# Altium footprint library LORA.PcbLib: 21 footprints (part 1 of 2)
Each footprint in its own frame and in the unit in brackets; x right, y up, seen from the top. Pads: shape width x height; smd on the part's side, far side on the other; paste and mask are expansions set on the pad; w line width, h text height; cw(c..) or ccw(c..) is an arc to the next point about the centre after c.
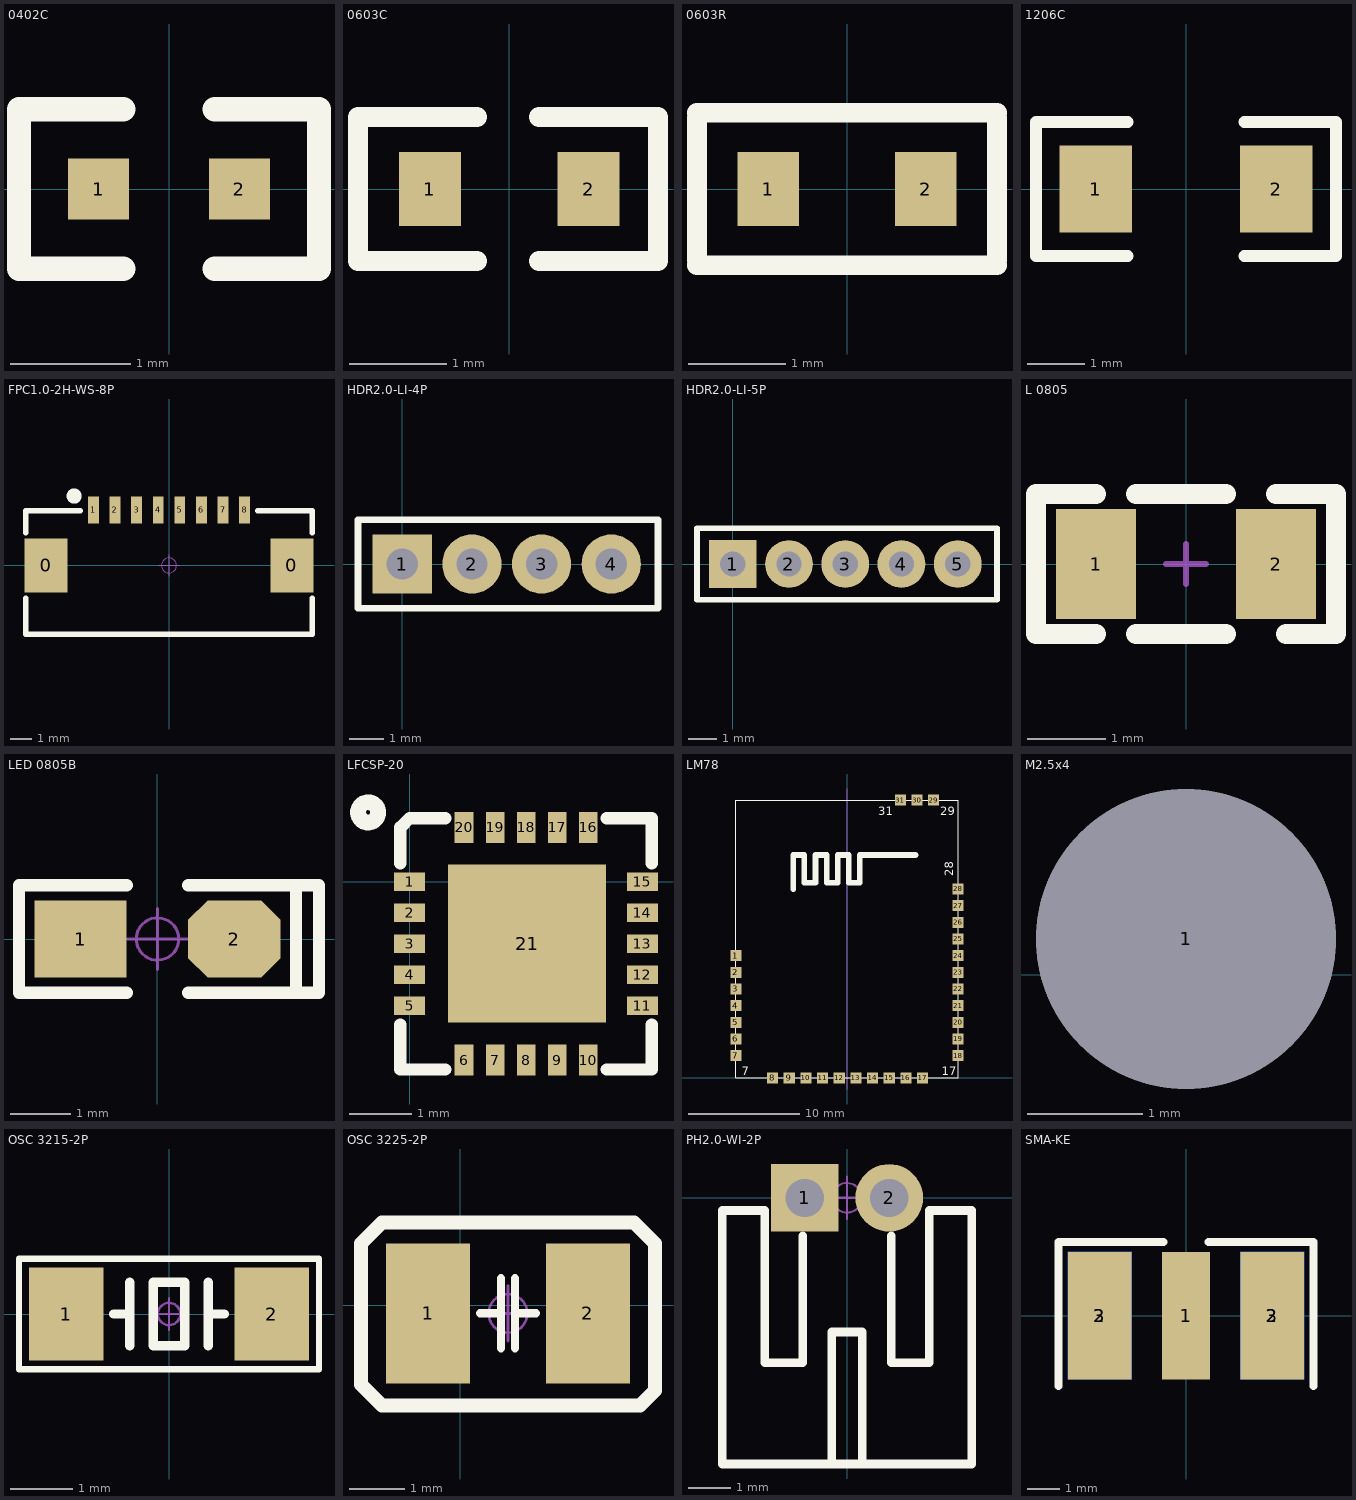
[diagram p0: the footprints below, top view; thin cyan lines are the x and y axes]

## 0402C [mil] "1mmx0.5mm （蒜米工坊）"
height 9.84
pads (2):
  rect 20x20 smd: 1(-23,0) 2(23,0)
Top Overlay:
  lines w8: -15,-26 -49,-26 -49,26 -15,26 ; 15,-26 49,-26 49,26 15,26
3D body: height 13.78, standoff 0, extent -19.68,-9.84 19.68,9.84

## 0603C [mil] "1.6mmx0.8mm（蒜米工坊）"
height 19.68
pads (2):
  rect 25x30 smd: 1(-32,0) 2(32,0)
Top Overlay:
  lines w8: -13,-29 -61,-29 -61,29 -13,29 ; 12,-29 60,-29 60,29 12,29
3D body: height 17.72, standoff 0, extent -32.5,-15.75 30.5,15.75

## 0603R [mil]
pads (2):
  rect 25x30 smd: 1(-32,0) 2(32,0)
Top Overlay:
  lines w8: -61,-31 13,-31 61,-31 ; -61,-29 -61,29 ; -61,31 13,31 61,31 ; 61,-29 61,29
3D body: height 17.72, standoff 0, extent -32.5,-15.75 30.5,15.75

## 1206C [mil] "3.2mmx1.6mm（蒜米工坊）"
height 19.68
pads (2):
  rect 50x60 smd: 1(-62,0) 2(62,0)
Top Overlay:
  lines w8: -40,-46 -103,-46 -103,46 -40,46 ; 40,-46 103,-46 103,46 40,46
3D body: height 23.62, standoff 0, extent -63.99,-32.49 62,30.5

## FPC1.0-2H-WS-8P [mm] "翻盖FPC，脚距1mm，不含脚（长12.9mm，宽5.2mm，高1.96mm）"
pads (10):
  rect 2x2.5 smd: 0(-5.69,0) 0(5.69,0)
  rect 0.5x1.25 smd: 1(-3.5,2.575) 2(-2.5,2.575) 3(-1.5,2.575) 4(-0.5,2.575) 5(0.5,2.575) 6(1.5,2.575) 7(2.5,2.575) 8(3.5,2.575)
Top Overlay:
  circle w0.5: c-4.389,3.21 r0.1
  lines w0.254: -6.636,-1.524 -6.636,-3.175 6.636,-3.175 6.636,-1.524 ; -6.636,1.524 -6.636,2.54 -4.096,2.54 ; 4.096,2.54 6.636,2.54 6.636,1.524
Mechanical 15:
  circle w0.05: c0,0 r0.35
  lines w0.05: -0.5,0 0.5,0 ; 0,-0.5 0,0.5
3D body: height 2, standoff -0.02, extent -6.45,-3.15 6.45,2.85

## HDR2.0-LI-4P [mm]
pads (4):
  rect 1.7x1.7 hole 0.9: 1(0,0)
  round 1.7 hole 0.9: 2(2,0) 3(4,0) 4(6,0)
Top Overlay:
  lines w0.2: -1.27,-1.27 -1.27,1.27 7.341,1.27 7.341,-1.27 -1.27,-1.27
3D body: height 8.5, standoff -3, extent -1.27,-1.27 1.27,1.27
3D body: height 8.5, standoff -3, extent 0.711,-1.27 3.251,1.27
3D body: height 8.5, standoff -3, extent 2.743,-1.27 5.283,1.27
3D body: height 8.5, standoff -3, extent 4.724,-1.27 7.264,1.27

## HDR2.0-LI-5P [mm]
pads (5):
  rect 1.7x1.7 hole 0.9: 1(0,0)
  round 1.7 hole 0.9: 2(2,0) 3(4,0) 4(6,0) 5(8,0)
Top Overlay:
  lines w0.2: -1.27,-1.27 9.398,-1.27 9.398,1.27 -1.27,1.27 -1.27,-1.27
3D body: height 8.5, standoff -3, extent 0.737,-1.27 3.277,1.27
3D body: height 8.5, standoff -3, extent -1.27,-1.27 1.27,1.27
3D body: height 8.5, standoff -3, extent 4.75,-1.27 7.29,1.27
3D body: height 8.5, standoff -3, extent 2.692,-1.27 5.232,1.27
3D body: height 8.5, standoff -3, extent 6.706,-1.295 9.246,1.245

## L 0805 [mil] "小功率贴片电感"
pads (2):
  rect 40x55 smd: 1(-45,0) 2(45,0)
Top Overlay:
  lines w10: -45,-35 -75,-35 -75,35 -45,35 ; -25,-35 20,-35 ; -25,35 20,35 ; 45,35 75,35 75,-35 50,-35
Mechanical 15:
  lines w3: -10,0 10,0 ; 0,-10 0,10
3D body: height 35.43, standoff -0.11, extent -39.37,-23.62 39.37,23.62

## LED 0805B [mil] "蓝色0805LED"
pads (2):
  rect 60x50 smd: 1(-50,0)
  oct 60x50 smd: 2(50,0)
Top Overlay:
  lines w8: -20,-35 -90,-35 -90,35 -20,35 ; 20,-35 105,-35 105,35 20,35 ; 90,-35 90,35
Mechanical 15:
  circle w1.97: c0,0 r13.78
  lines w1.97: -19.68,0 19.68,0 ; 0,-19.68 0,19.68
3D body: height 31.69, standoff 12.01, extent -29.49,-24.65 29.49,24.65
3D body: height 26.31, standoff -0.16, extent -39.37,-24.65 39.37,24.65

## LFCSP-20 [mm]
pads (21):
  rect 0.5x0.3 smd: 1(0,0) 2(0,-0.5) 3(0,-1) 4(0,-1.5) 5(0,-2) 11(3.75,-2) 12(3.75,-1.5) 13(3.75,-1) 14(3.75,-0.5) 15(3.75,0)
  rect 0.3x0.5 smd: 6(0.875,-2.875) 7(1.375,-2.875) 8(1.875,-2.875) 9(2.375,-2.875) 10(2.875,-2.875) 16(2.875,0.875) 17(2.375,0.875) 18(1.875,0.875) 19(1.375,0.875) 20(0.875,0.875)
  rect 2.55x2.55 smd: 21(1.891,-0.995)
Top Overlay:
  circle w0.254: c-0.671,1.118 r0.163
  lines w0.2: -0.15,-2.3 -0.15,-3.025 0.575,-3.025 ; -0.15,0.3 -0.15,0.875 0,1.025 0.575,1.025 ; 3.175,-3.025 3.9,-3.025 3.9,-2.3 ; 3.175,1.025 3.9,1.025 3.9,0.3
3D body: height 1, standoff 0, extent -0.102,-2.997 3.898,1.003

## LM78 [mm]
pads (31):
  rect 1x1 smd: 1(-10,11) 2(-10,9.5) 3(-10,8) 4(-10,6.5) 5(-10,5) 6(-10,3.5) 7(-10,2) 8(-6.7,0) 9(-5.2,0) 10(-3.7,0) 11(-2.2,0) 12(-0.7,0) 13(0.8,0) 14(2.3,0) 15(3.8,0) 16(5.3,0) 17(6.8,0) 18(10,2) 19(10,3.5) 20(10,5) 21(10,6.5) 22(10,8) 23(10,9.5) 24(10,11) 25(10,12.5) 26(10,14) 27(10,15.5) 28(10,17) 29(7.8,25) 30(6.3,25) 31(4.8,25)
Top Overlay:
  lines w0.1: -10,0 -10,25 10,25 10,0 -10,0
  lines w0.5: -4.835,16.966 -4.835,20.061 -3.835,20.061 -3.835,17.561 -2.835,17.561 -2.835,20.021 ; -2.835,20.061 -1.835,20.061 -1.835,17.561 -0.835,17.561 -0.835,20.051 ; -0.835,20.061 0.165,20.061 0.165,17.561 1.165,17.561 1.165,20.061 6.165,20.061
  text "31" at 2.827,23.622 h0.76
  text "29" at 8.415,23.622 h0.76
  text "28" at 9.558,18.161 h0.76
  text "7" at -9.492,0.254 h0.76
  text "17" at 8.542,0.254 h0.76
Mechanical 13:
  lines w0.1: 0,-1 0,26
3D body: height 2, standoff 0, extent -10.033,-0.127 10.033,25.019

## M2.5x4 [mm]
pads (1):
  round 2.6 hole 2.6 unplated: 1(2.396,0.309)

## OSC 3215-2P [mm] "3.2*1.5*0.6mm(长宽高)"
pads (2):
  rect 1.2x1.5 smd: 1(-1.65,0) 2(1.65,0)
Top Overlay:
  lines w0.1: -2.413,-0.889 -2.413,0.889 2.413,0.889 2.413,-0.889 -2.413,-0.889
  lines w0.152: -0.889,0 -0.635,0 ; -0.635,-0.508 -0.635,0.508 ; 0.635,-0.508 0.635,0.508 ; 0.635,0 0.889,0 ; -0.254,-0.508 0.254,-0.508 0.254,0.508 -0.254,0.508 -0.254,-0.508
Mechanical 15:
  circle w0.04: c0,0 r0.18
  lines w0.04: -0.254,0 0.254,0 ; 0,-0.254 0,0.254
3D body: height 0.61, standoff -0.01, extent -1.6,-0.75 1.6,0.75

## OSC 3225-2P [mil]
pads (2):
  rect 60x100 smd: 1(-23.09,-6) 2(91.09,-6)
Top Overlay:
  lines w6: 14,-6 29,-6 ; 29,-31 29,19 ; 39,-31 39,19 ; 39,-6 54,-6
  lines w10: -71,-56.84 -56,-71.84 128.16,-71.84 139,-61 139,44 124,59 -56,59 -71,44 -71,-56.84
Mechanical 15:
  circle w1.97: c34,-6 r13.78
  lines w1.97: 14.31,-6 53.69,-6 ; 34,-25.68 34,13.69
3D body: height 29.53, standoff 0, extent -31,-56 94.98,42.43

## PH2.0-WI-2P [mm] "长：5.9mm，宽：6mm，高：4.7mm"
height 10
pads (2):
  rect 1.6x1.6 hole 0.9: 1(-1,0)
  round 1.6 hole 0.9: 2(1,0)
Top Overlay:
  lines w0.203: -1.05,-0.9 -1.05,-3.9 -1.95,-3.9 -1.95,-3.3 -1.95,-0.3 -2,-0.3 -2.95,-0.3 -2.95,-6.3 2.95,-6.3 2.95,-0.3 2,-0.3 1.95,-0.3 1.95,-3.3 1.95,-3.9 1.05,-3.9 1.05,-0.9 ; -0.365,-6.215 -0.365,-3.175 0.365,-3.175 0.365,-6.215
Mechanical 15:
  circle w0.05: c0,0 r0.35
  lines w0.05: -0.5,0 0.5,0 ; 0,-0.5 0,0.5
3D body: height 4.75, standoff -2.65, extent -2.95,-6.3 2.95,0.3

## SMA-KE [mm] "SMA 偏脚射频天线座"
pads (5):
  rect 1.5x4 smd: 1(0,0)
  rect 2x4 smd: 2(-2.7,0) 2(2.7,0)
  rect 2x4 smd far side: 3(-2.7,0) 3(2.7,0)
Top Overlay:
  lines w0.254: -4,-2.2 -4,2.3 -0.7,2.3 ; 0.7,2.3 4,2.3 4,-2.2
3D body: height 3.75, standoff -2.76, extent -3.25,-1.3 3.25,12.2